# EAGLE library part ATMEGA328P (library MyDuino)
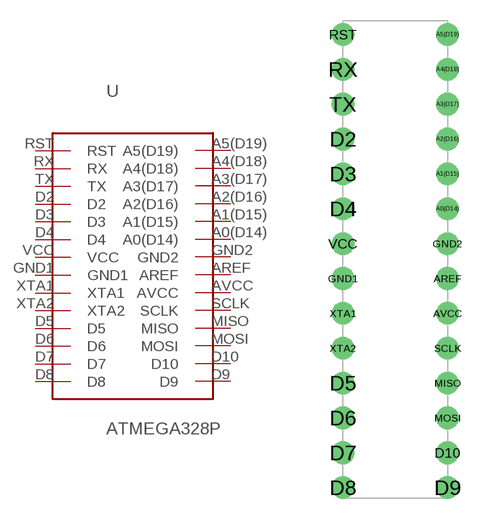
[diagram p0: symbol with the pads of DIP28; footprint DIP28]

Designator prefix -

## ATMEGA328P  [DIP28]
A0(D14)  A0(D14)
A1(D15)  A1(D15)
A2(D16)  A2(D16)
A3(D17)  A3(D17)
A4(D18)  A4(D18)
A5(D19)  A5(D19)
AREF  AREF
AVCC  AVCC
D2  D2
D3  D3
D4  D4
D5  D5
D6  D6
D7  D7
D8  D8
D9  D9
D10  D10
GND1  GND1
GND2  GND2
MISO  MISO
MOSI  MOSI
RST  RST
RX  RX
SCLK  SCLK
TX  TX
VCC  VCC
XTA1  XTA1
XTA2  XTA2

## Footprint DIP28 (pad centres in mm)
drill 1.1: A0(D14) 5.08,7.62; A1(D15) 5.08,10.16; A2(D16) 5.08,12.7; A3(D17) 5.08,15.24; A4(D18) 5.08,17.78; A5(D19) 5.08,20.32; AREF 5.08,2.54; AVCC 5.08,0; D2 -2.54,12.7; D3 -2.54,10.16; D4 -2.54,7.62; D5 -2.54,-5.08; D6 -2.54,-7.62; D7 -2.54,-10.16; D8 -2.54,-12.7; D9 5.08,-12.7; D10 5.08,-10.16; GND1 -2.54,2.54; GND2 5.08,5.08; MISO 5.08,-5.08; MOSI 5.08,-7.62; RST -2.54,20.32; RX -2.54,17.78; SCLK 5.08,-2.54; TX -2.54,15.24; VCC -2.54,5.08; XTA1 -2.54,0; XTA2 -2.54,-2.54